# EAGLE library part SN75176B (library IC & Transistor)
SN75176B RS-485/RS-422 Transceiver Created by: Wai Weng
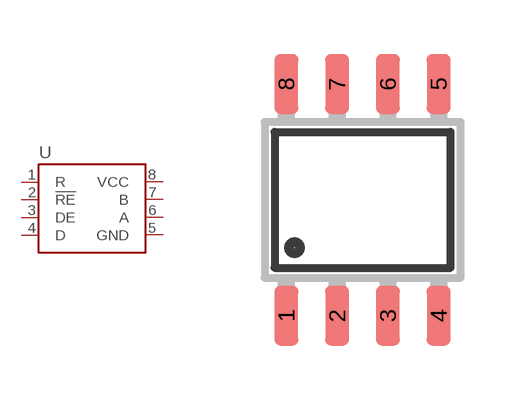
[diagram p62: symbol with the pads of SOIC-08N; footprint SOIC-08N]

Designator prefix U

## SN75176B (DESC: RS-485/RS-422 Transceiver; MF: Texas Instruments; MPN: SN75176BDR)  [SOIC-08N]
1  R
2  !RE
3  DE
4  D
5  GND
6  A
7  B
8  VCC

## Footprint SOIC-08N (pad centres in mm)
Small Outline Integrated Circuit (SOIC) Narrow (JEDEC) SOIC Package Size: 4.9mm x 3.9mm Lead Pitch: 1.27mm
smd 0.6 x 1.5: 1 -1.905,-2.9; 2 -0.635,-2.9; 3 0.635,-2.9; 4 1.905,-2.9; 5 1.905,2.9; 6 0.635,2.9; 7 -0.635,2.9; 8 -1.905,2.9